# Altium footprint library mcu-th.PcbLib: 14 footprints
Each footprint in its own frame and in the unit in brackets; x right, y up, seen from the top. Pads: shape width x height; smd on the part's side, far side on the other; paste and mask are expansions set on the pad; w line width, h text height; cw(c..) or ccw(c..) is an arc to the next point about the centre after c.
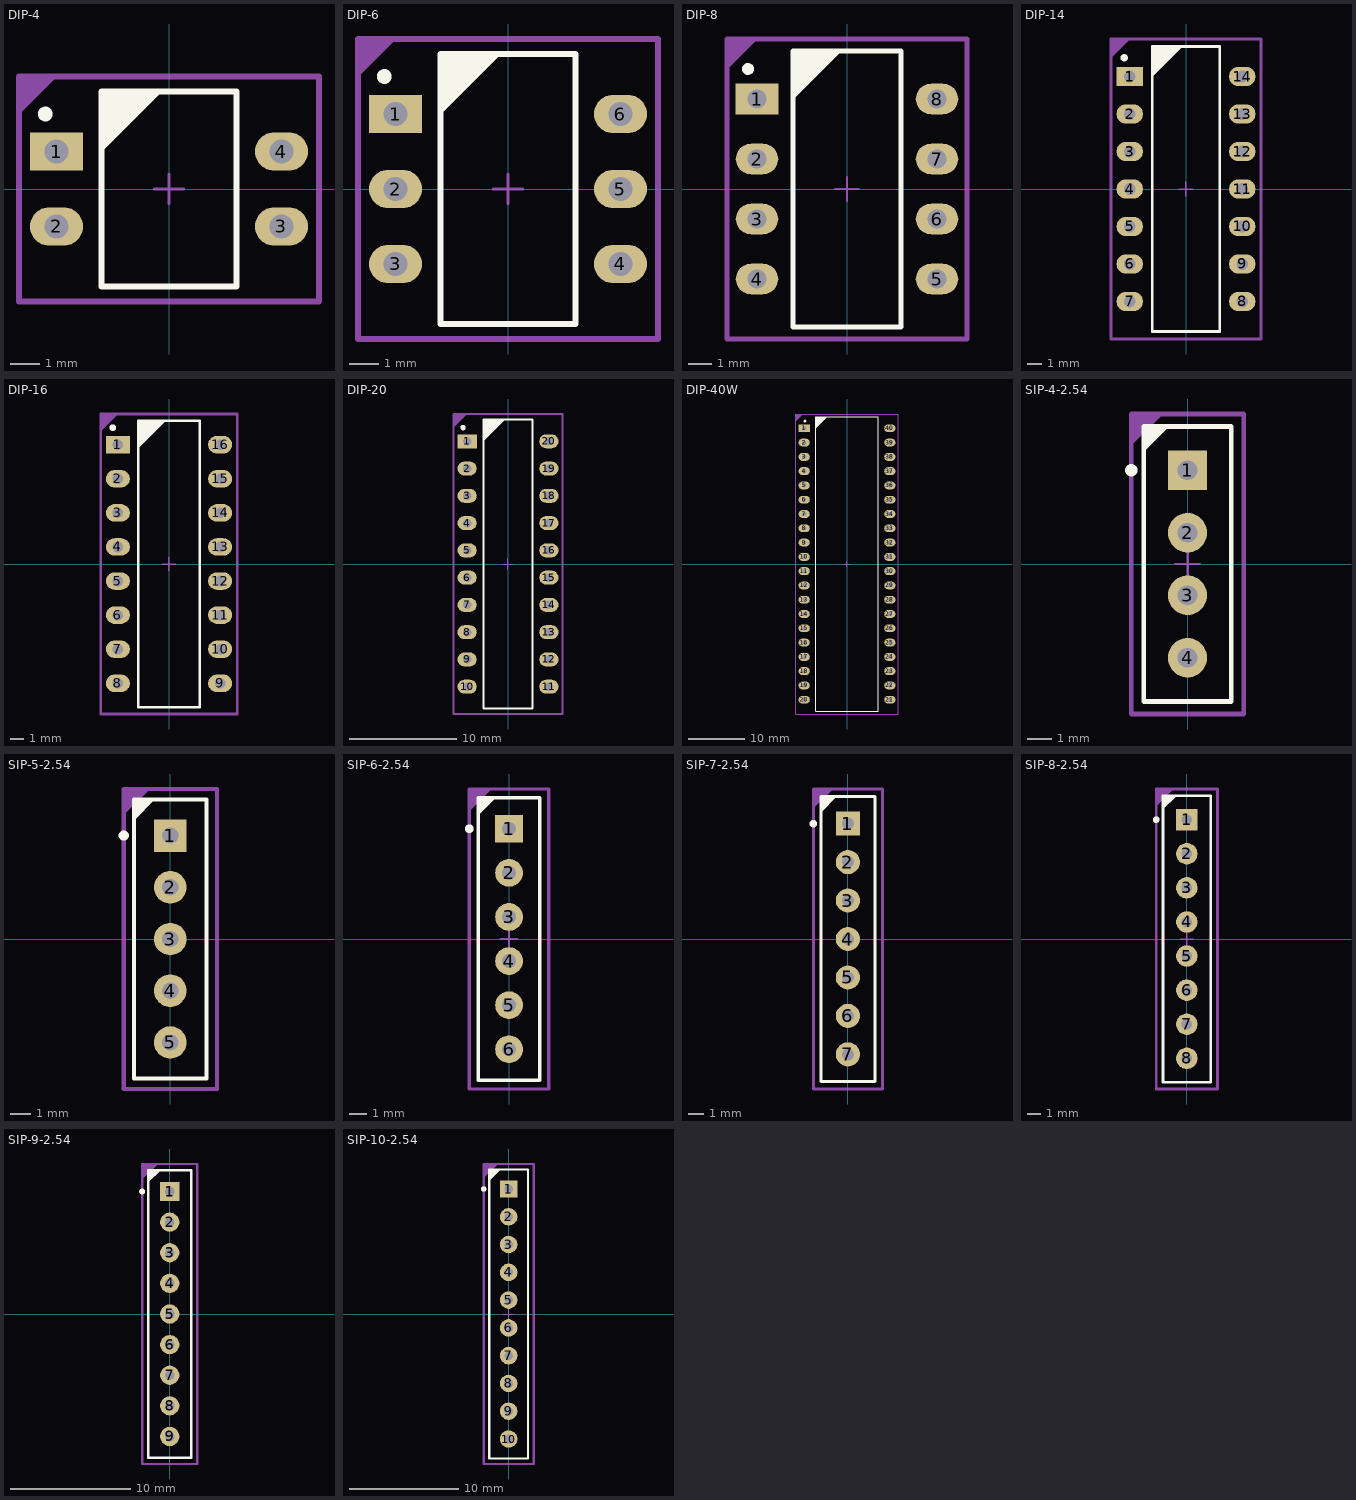
[diagram p0: the footprints below, top view; thin cyan lines are the x and y axes]

## DIP-4 [mm]
pads (4):
  rect 1.8x1.3 hole 0.8: 1(-3.81,1.27)
  oval 1.8x1.3 hole 0.8: 2(-3.81,-1.27) 3(3.81,-1.27) 4(3.81,1.27)
Top Overlay:
  circle w0.25: c-4.189,2.54 r0.125
  region: -2.286,3.302 -0.254,3.302 -2.286,1.27
  lines w0.2: -2.286,-3.302 2.286,-3.302 2.286,3.302 -2.286,3.302 -2.286,-3.302
Mechanical 13:
  region: -5.08,3.81 -5.08,2.54 -3.81,3.81
  lines w0.2: -5.08,-3.81 5.08,-3.81 5.08,3.81 -5.08,3.81 -5.08,-3.81
  text ".Designator" at -3.302,-1.016 h2
Mechanical 15:
  lines w0.05: -5.08,-3.81 5.08,-3.81 5.08,3.81 -5.08,3.81 -5.08,-3.81
  lines w0.1: -0.5,0 0.5,0 ; 0,-0.5 0,0.5
3D body: height 5, standoff 1.27, extent -3.55,-3.302 3.55,3.302

## DIP-6 [mm]
pads (6):
  rect 1.8x1.3 hole 0.8: 1(-3.81,2.54)
  oval 1.8x1.3 hole 0.8: 2(-3.81,0) 3(-3.81,-2.54) 4(3.81,-2.54) 5(3.81,0) 6(3.81,2.54)
Top Overlay:
  circle w0.25: c-4.189,3.81 r0.125
  region: -2.286,4.572 -0.254,4.572 -2.286,2.54
  lines w0.2: -2.286,-4.572 2.286,-4.572 2.286,4.572 -2.286,4.572 -2.286,-4.572
Mechanical 13:
  region: -5.08,5.08 -5.08,3.81 -3.81,5.08
  lines w0.2: -5.08,-5.08 5.08,-5.08 5.08,5.08 -5.08,5.08 -5.08,-5.08
  text ".Designator" at -3.302,-1.016 h2
Mechanical 15:
  lines w0.05: -5.08,-5.08 5.08,-5.08 5.08,5.08 -5.08,5.08 -5.08,-5.08
  lines w0.1: -0.5,0 0.5,0 ; 0,-0.5 0,0.5
3D body: height 5, standoff 1.27, extent -3.55,-4.572 3.55,4.572

## DIP-8 [mm]
pads (8):
  rect 1.8x1.3 hole 0.8: 1(-3.81,3.81)
  oval 1.8x1.3 hole 0.8: 2(-3.81,1.27) 3(-3.81,-1.27) 4(-3.81,-3.81) 5(3.81,-3.81) 6(3.81,-1.27) 7(3.81,1.27) 8(3.81,3.81)
Top Overlay:
  circle w0.25: c-4.189,5.08 r0.125
  region: -2.286,5.842 -0.254,5.842 -2.286,3.81
  lines w0.2: -2.286,-5.842 -2.286,5.842 2.286,5.842 2.286,-5.842 -2.286,-5.842
Mechanical 13:
  region: -5.08,6.35 -5.08,5.08 -3.81,6.35
  lines w0.2: -5.08,-6.35 -5.08,6.35 5.08,6.35 5.08,-6.35 -5.08,-6.35
  text ".Designator" at -3.302,-1.016 h2
Mechanical 15:
  lines w0.05: -5.08,-6.35 -5.08,6.35 5.08,6.35 5.08,-6.35 -5.08,-6.35
  lines w0.1: -0.5,0 0.5,0 ; 0,-0.5 0,0.5
3D body: height 5, standoff 1.27, extent -3.55,-5.842 3.55,5.842

## DIP-14 [mm]
pads (14):
  rect 1.8x1.3 hole 0.8: 1(-3.81,7.62)
  oval 1.8x1.3 hole 0.8: 2(-3.81,5.08) 3(-3.81,2.54) 4(-3.81,0) 5(-3.81,-2.54) 6(-3.81,-5.08) 7(-3.81,-7.62) 8(3.81,-7.62) 9(3.81,-5.08) 10(3.81,-2.54) 11(3.81,0) 12(3.81,2.54) 13(3.81,5.08) 14(3.81,7.62)
Top Overlay:
  circle w0.25: c-4.189,8.89 r0.125
  region: -2.286,9.652 -0.254,9.652 -2.286,7.62
  lines w0.2: -2.286,-9.652 -2.286,9.652 2.286,9.652 2.286,-9.652 -2.286,-9.652
Mechanical 13:
  region: -5.08,10.16 -5.08,8.89 -3.81,10.16
  lines w0.2: -5.08,-10.16 -5.08,10.16 5.08,10.16 5.08,-10.16 -5.08,-10.16
  text ".Designator" at -3.302,-1.016 h2
Mechanical 15:
  lines w0.05: -5.08,-10.16 -5.08,10.16 5.08,10.16 5.08,-10.16 -5.08,-10.16
  lines w0.1: -0.5,0 0.5,0 ; 0,-0.5 0,0.5
3D body: height 5, standoff 1.27, extent -3.55,-9.652 3.55,9.652

## DIP-16 [mm]
pads (16):
  rect 1.8x1.3 hole 0.8: 1(-3.81,8.89)
  oval 1.8x1.3 hole 0.8: 2(-3.81,6.35) 3(-3.81,3.81) 4(-3.81,1.27) 5(-3.81,-1.27) 6(-3.81,-3.81) 7(-3.81,-6.35) 8(-3.81,-8.89) 9(3.81,-8.89) 10(3.81,-6.35) 11(3.81,-3.81) 12(3.81,-1.27) 13(3.81,1.27) 14(3.81,3.81) 15(3.81,6.35) 16(3.81,8.89)
Top Overlay:
  circle w0.25: c-4.189,10.16 r0.125
  region: -2.286,10.668 -0.254,10.668 -2.286,8.636
  lines w0.2: -2.286,-10.668 2.286,-10.668 2.286,10.668 -2.286,10.668 -2.286,-10.668
Mechanical 13:
  region: -5.08,11.176 -5.08,9.906 -3.81,11.176
  lines w0.2: -5.08,-11.176 5.08,-11.176 5.08,11.176 -5.08,11.176 -5.08,-11.176
  text ".Designator" at -3.302,-1.016 h2
Mechanical 15:
  lines w0.05: -5.08,-11.176 5.08,-11.176 5.08,11.176 -5.08,11.176 -5.08,-11.176
  lines w0.1: -0.5,0 0.5,0 ; 0,-0.5 0,0.5
3D body: height 5, standoff 1.27, extent -3.55,-10.668 3.55,10.668

## DIP-20 [mm]
pads (20):
  rect 1.8x1.3 hole 0.8: 1(-3.81,11.43)
  oval 1.8x1.3 hole 0.8: 2(-3.81,8.89) 3(-3.81,6.35) 4(-3.81,3.81) 5(-3.81,1.27) 6(-3.81,-1.27) 7(-3.81,-3.81) 8(-3.81,-6.35) 9(-3.81,-8.89) 10(-3.81,-11.43) 11(3.81,-11.43) 12(3.81,-8.89) 13(3.81,-6.35) 14(3.81,-3.81) 15(3.81,-1.27) 16(3.81,1.27) 17(3.81,3.81) 18(3.81,6.35) 19(3.81,8.89) 20(3.81,11.43)
Top Overlay:
  circle w0.25: c-4.189,12.7 r0.125
  region: -2.286,13.462 -0.254,13.462 -2.286,11.43
  lines w0.2: -2.286,-13.462 -2.286,13.462 2.286,13.462 2.286,-13.462 -2.286,-13.462
Mechanical 13:
  region: -5.08,13.97 -5.08,12.7 -3.81,13.97
  lines w0.2: -5.08,-13.97 5.08,-13.97 5.08,13.97 -5.08,13.97 -5.08,-13.97
  text ".Designator" at -3.302,-1.016 h2
Mechanical 15:
  lines w0.05: -5.08,-13.97 -5.08,13.97 5.08,13.97 5.08,-13.97 -5.08,-13.97
  lines w0.1: -0.5,0 0.5,0 ; 0,-0.5 0,0.5
3D body: height 5, standoff 1.27, extent -3.55,-13.462 3.55,13.462

## DIP-40W [mm]
pads (40):
  rect 2x1.4 hole 0.8: 1(-7.62,24.13)
  oval 2x1.4 hole 0.8: 2(-7.62,21.59) 3(-7.62,19.05) 4(-7.62,16.51) 5(-7.62,13.97) 6(-7.62,11.43) 7(-7.62,8.89) 8(-7.62,6.35) 9(-7.62,3.81) 10(-7.62,1.27) 11(-7.62,-1.27) 12(-7.62,-3.81) 13(-7.62,-6.35) 14(-7.62,-8.89) 15(-7.62,-11.43) 16(-7.62,-13.97) 17(-7.62,-16.51) 18(-7.62,-19.05) 19(-7.62,-21.59) 20(-7.62,-24.13) 21(7.62,-24.13) 22(7.62,-21.59) 23(7.62,-19.05) 24(7.62,-16.51) 25(7.62,-13.97) 26(7.62,-11.43) 27(7.62,-8.89) 28(7.62,-6.35) 29(7.62,-3.81) 30(7.62,-1.27) 31(7.62,1.27) 32(7.62,3.81) 33(7.62,6.35) 34(7.62,8.89) 35(7.62,11.43) 36(7.62,13.97) 37(7.62,16.51) 38(7.62,19.05) 39(7.62,21.59) 40(7.62,24.13)
Top Overlay:
  circle w0.25: c-7.491,25.4 r0.125
  region: -5.588,26.162 -3.556,26.162 -5.588,24.13
  lines w0.2: -5.588,-26.162 5.588,-26.162 5.588,26.162 -5.588,26.162 -5.588,-26.162
Mechanical 13:
  region: -9.144,26.67 -9.144,25.4 -7.874,26.67
  lines w0.2: -9.144,-26.67 9.144,-26.67 9.144,26.67 -9.144,26.67 -9.144,-26.67
  text ".Designator" at -3.302,-1.016 h2
Mechanical 15:
  lines w0.05: -9.144,-26.67 9.144,-26.67 9.144,26.67 -9.144,26.67 -9.144,-26.67
  lines w0.1: -0.5,0 0.5,0 ; 0,-0.5 0,0.5
3D body: height 5, standoff 1.27, extent -7.112,-26.162 7.112,26.162

## SIP-4-2.54 [mm]
pads (4):
  rect 1.6x1.6 hole 0.8: 1(0,3.81)
  round 1.6 hole 0.8: 2(0,1.27) 3(0,-1.27) 4(0,-3.81)
Top Overlay:
  circle w0.25: c-2.286,3.81 r0.125
  region: -1.778,5.588 -0.762,5.588 -1.778,4.572
  lines w0.2: -1.778,-5.588 -1.778,5.588 1.778,5.588 1.778,-5.588 -1.778,-5.588
Mechanical 13:
  region: -2.286,6.096 -2.286,4.826 -1.016,6.096
  lines w0.2: -2.286,-6.096 2.286,-6.096 2.286,6.096 -2.286,6.096 -2.286,-6.096
  text ".Designator" at -1.016,3.302 h2
Mechanical 15:
  lines w0.05: -2.286,-6.096 -2.286,6.096 2.286,6.096 2.286,-6.096 -2.286,-6.096
  lines w0.1: -0.5,0 0.5,0 ; 0,-0.5 0,0.5
3D body: height 5, standoff 1.27, extent -1.778,-5.588 1.778,5.588

## SIP-5-2.54 [mm]
pads (5):
  rect 1.6x1.6 hole 0.8: 1(0,5.08)
  round 1.6 hole 0.8: 2(0,2.54) 3(0,0) 4(0,-2.54) 5(0,-5.08)
Top Overlay:
  circle w0.25: c-2.286,5.08 r0.125
  region: -1.778,6.858 -0.762,6.858 -1.778,5.842
  lines w0.2: -1.778,-6.858 1.778,-6.858 1.778,6.858 -1.778,6.858 -1.778,-6.858
Mechanical 13:
  region: -2.286,7.366 -2.286,6.096 -1.016,7.366
  lines w0.2: -2.286,-7.366 -2.286,7.366 2.286,7.366 2.286,-7.366 -2.286,-7.366
  text ".Designator" at -1.016,3.302 h2
Mechanical 15:
  lines w0.05: -2.286,-7.366 2.286,-7.366 2.286,7.366 -2.286,7.366 -2.286,-7.366
  lines w0.1: -0.5,0 0.5,0 ; 0,-0.5 0,0.5
3D body: height 5, standoff 1.27, extent -1.778,-6.858 1.778,6.858

## SIP-6-2.54 [mm]
pads (6):
  rect 1.6x1.6 hole 0.8: 1(0,6.35)
  round 1.6 hole 0.8: 2(0,3.81) 3(0,1.27) 4(0,-1.27) 5(0,-3.81) 6(0,-6.35)
Top Overlay:
  circle w0.25: c-2.286,6.35 r0.125
  region: -1.778,8.128 -0.762,8.128 -1.778,7.112
  lines w0.2: -1.778,-8.128 -1.778,8.128 1.778,8.128 1.778,-8.128 -1.778,-8.128
Mechanical 13:
  region: -2.286,8.636 -2.286,7.366 -1.016,8.636
  lines w0.2: -2.286,-8.636 2.286,-8.636 2.286,8.636 -2.286,8.636 -2.286,-8.636
  text ".Designator" at -1.016,3.302 h2
Mechanical 15:
  lines w0.05: -2.286,-8.636 -2.286,8.636 2.286,8.636 2.286,-8.636 -2.286,-8.636
  lines w0.1: -0.5,0 0.5,0 ; 0,-0.5 0,0.5
3D body: height 5, standoff 1.27, extent -1.778,-8.128 1.778,8.128

## SIP-7-2.54 [mm]
pads (7):
  rect 1.6x1.6 hole 0.8: 1(0,7.62)
  round 1.6 hole 0.8: 2(0,5.08) 3(0,2.54) 4(0,0) 5(0,-2.54) 6(0,-5.08) 7(0,-7.62)
Top Overlay:
  circle w0.25: c-2.286,7.62 r0.125
  region: -1.778,9.398 -0.762,9.398 -1.778,8.382
  lines w0.2: -1.778,-9.398 -1.778,9.398 1.778,9.398 1.778,-9.398 -1.778,-9.398
Mechanical 13:
  region: -2.286,9.906 -2.286,8.636 -1.016,9.906
  lines w0.2: -2.286,-9.906 -2.286,9.906 2.286,9.906 2.286,-9.906 -2.286,-9.906
  text ".Designator" at -1.016,3.302 h2
Mechanical 15:
  lines w0.05: -2.286,-9.906 -2.286,9.906 2.286,9.906 2.286,-9.906 -2.286,-9.906
  lines w0.1: -0.5,0 0.5,0 ; 0,-0.5 0,0.5
3D body: height 5, standoff 1.27, extent -1.778,-9.398 1.778,9.398

## SIP-8-2.54 [mm]
pads (8):
  rect 1.6x1.6 hole 0.8: 1(0,8.89)
  round 1.6 hole 0.8: 2(0,6.35) 3(0,3.81) 4(0,1.27) 5(0,-1.27) 6(0,-3.81) 7(0,-6.35) 8(0,-8.89)
Top Overlay:
  circle w0.25: c-2.286,8.89 r0.125
  region: -1.778,10.668 -0.762,10.668 -1.778,9.652
  lines w0.2: -1.778,-10.668 1.778,-10.668 1.778,10.668 -1.778,10.668 -1.778,-10.668
Mechanical 13:
  region: -2.286,11.176 -2.286,9.906 -1.016,11.176
  lines w0.2: -2.286,-11.176 2.286,-11.176 2.286,11.176 -2.286,11.176 -2.286,-11.176
  text ".Designator" at -1.016,3.302 h2
Mechanical 15:
  lines w0.05: -2.286,-11.176 2.286,-11.176 2.286,11.176 -2.286,11.176 -2.286,-11.176
  lines w0.1: -0.5,0 0.5,0 ; 0,-0.5 0,0.5
3D body: height 5, standoff 1.27, extent -1.778,-10.668 1.778,10.668

## SIP-9-2.54 [mm]
pads (9):
  rect 1.6x1.6 hole 0.8: 1(0,10.16)
  round 1.6 hole 0.8: 2(0,7.62) 3(0,5.08) 4(0,2.54) 5(0,0) 6(0,-2.54) 7(0,-5.08) 8(0,-7.62) 9(0,-10.16)
Top Overlay:
  circle w0.25: c-2.286,10.16 r0.125
  region: -1.778,11.938 -0.762,11.938 -1.778,10.922
  lines w0.2: -1.778,-11.938 1.778,-11.938 1.778,11.938 -1.778,11.938 -1.778,-11.938
Mechanical 13:
  region: -2.286,12.446 -2.286,11.176 -1.016,12.446
  lines w0.2: -2.286,-12.446 2.286,-12.446 2.286,12.446 -2.286,12.446 -2.286,-12.446
  text ".Designator" at -1.016,3.302 h2
Mechanical 15:
  lines w0.05: -2.286,-12.446 2.286,-12.446 2.286,12.446 -2.286,12.446 -2.286,-12.446
  lines w0.1: -0.5,0 0.5,0 ; 0,-0.5 0,0.5
3D body: height 5, standoff 1.27, extent -1.778,-11.938 1.778,11.938

## SIP-10-2.54 [mm]
pads (10):
  rect 1.6x1.6 hole 0.8: 1(0,11.43)
  round 1.6 hole 0.8: 2(0,8.89) 3(0,6.35) 4(0,3.81) 5(0,1.27) 6(0,-1.27) 7(0,-3.81) 8(0,-6.35) 9(0,-8.89) 10(0,-11.43)
Top Overlay:
  circle w0.25: c-2.286,11.43 r0.125
  region: -1.778,13.208 -0.762,13.208 -1.778,12.192
  lines w0.2: -1.778,-13.208 1.778,-13.208 1.778,13.208 -1.778,13.208 -1.778,-13.208
Mechanical 13:
  region: -2.286,13.716 -2.286,12.446 -1.016,13.716
  lines w0.2: -2.286,-13.716 -2.286,13.716 2.286,13.716 2.286,-13.716 -2.286,-13.716
  text ".Designator" at -1.016,3.302 h2
Mechanical 15:
  lines w0.05: -2.286,-13.716 2.286,-13.716 2.286,13.716 -2.286,13.716 -2.286,-13.716
  lines w0.1: -0.5,0 0.5,0 ; 0,-0.5 0,0.5
3D body: height 5, standoff 1.27, extent -1.778,-13.208 1.778,13.208